# Altium footprint library mechanical_spacers.PcbLib: 19 footprints (part 1 of 2)
Each footprint in its own frame and in the unit in brackets; x right, y up, seen from the top. Pads: shape width x height; smd on the part's side, far side on the other; paste and mask are expansions set on the pad; w line width, h text height; cw(c..) or ccw(c..) is an arc to the next point about the centre after c.
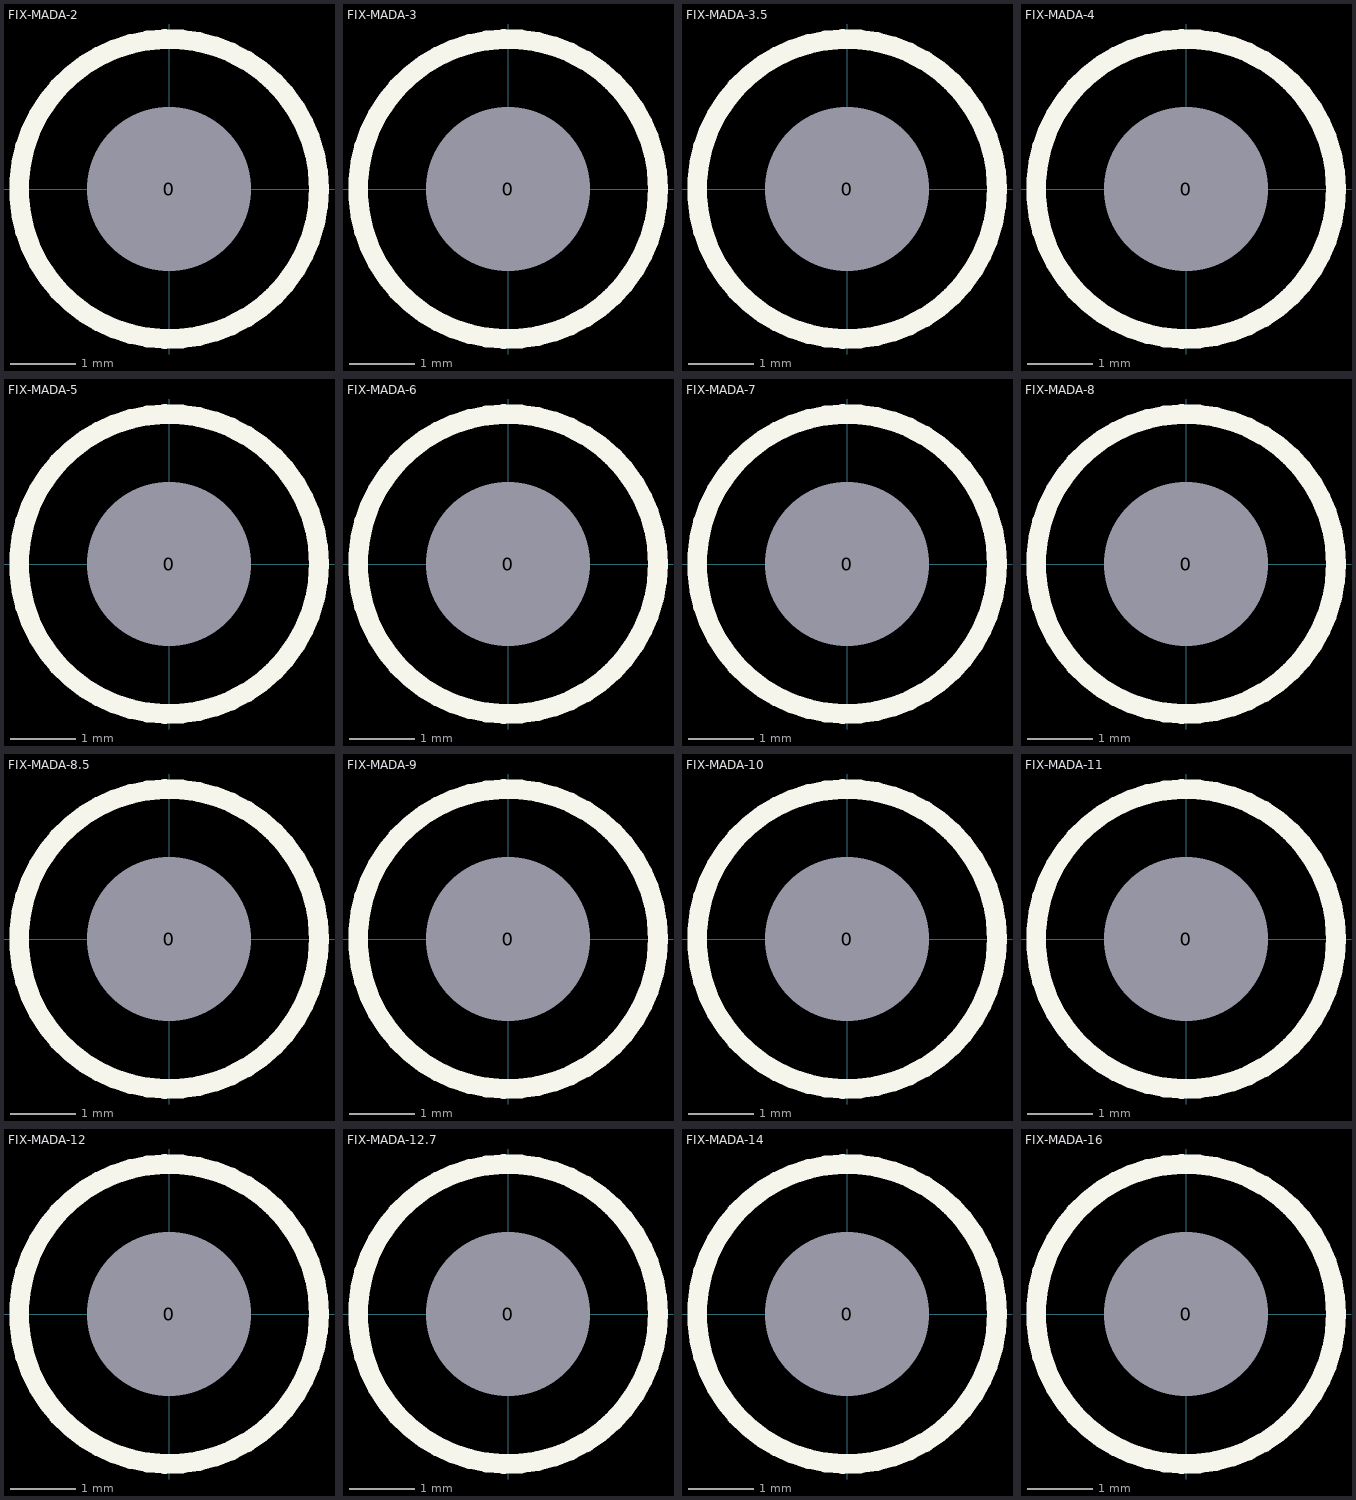
[diagram p0: the footprints below, top view; thin cyan lines are the x and y axes]

## FIX-MADA-2 [mm]
pads (1):
  round 1 hole 2.5: 0(0,0)
Top Overlay:
  circle w0.3: c0,0 r2.286
3D body "User Library-MADA-2.step": height 5.7, standoff -3.7, extent -2.3,-2.3 2.3,2.3

## FIX-MADA-3 [mm]
pads (1):
  round 1 hole 2.5: 0(0,0)
Top Overlay:
  circle w0.3: c0,0 r2.286
3D body "User Library-MADA-3.step": height 6.7, standoff -3.7, extent -2.3,-2.3 2.3,2.3

## FIX-MADA-3.5 [mm]
pads (1):
  round 1 hole 2.5: 0(0,0)
Top Overlay:
  circle w0.3: c0,0 r2.286

## FIX-MADA-4 [mm]
pads (1):
  round 1 hole 2.5: 0(0,0)
Top Overlay:
  circle w0.3: c0,0 r2.286
3D body "User Library-MADA-4.step": height 7.7, standoff -3.7, extent -2.3,-2.3 2.3,2.3

## FIX-MADA-5 [mm]
pads (1):
  round 1 hole 2.5: 0(0,0)
Top Overlay:
  circle w0.3: c0,0 r2.286
3D body "User Library-MADA-5.step": height 8.7, standoff -3.7, extent -2.3,-2.3 2.3,2.3

## FIX-MADA-6 [mm]
pads (1):
  round 1 hole 2.5: 0(0,0)
Top Overlay:
  circle w0.3: c0,0 r2.286
3D body "User Library-MADA-6.step": height 9.7, standoff -3.7, extent -2.3,-2.3 2.3,2.3

## FIX-MADA-7 [mm]
pads (1):
  round 1 hole 2.5: 0(0,0)
Top Overlay:
  circle w0.3: c0,0 r2.286
3D body "User Library-MADA-7.step": height 10.7, standoff -3.7, extent -2.3,-2.3 2.3,2.3

## FIX-MADA-8 [mm]
pads (1):
  round 1 hole 2.5: 0(0,0)
Top Overlay:
  circle w0.3: c0,0 r2.286
3D body "User Library-MADA-8.step": height 11.7, standoff -3.7, extent -2.3,-2.3 2.3,2.3

## FIX-MADA-8.5 [mm]
pads (1):
  round 1 hole 2.5: 0(0,0)
Top Overlay:
  circle w0.3: c0,0 r2.286
3D body "User Library-MADA-8_5.step": height 12.2, standoff -3.7, extent -2.3,-2.3 2.3,2.3

## FIX-MADA-9 [mm]
pads (1):
  round 1 hole 2.5: 0(0,0)
Top Overlay:
  circle w0.3: c0,0 r2.286
3D body "User Library-MADA-9.step": height 12.7, standoff -3.7, extent -2.3,-2.3 2.3,2.3

## FIX-MADA-10 [mm]
pads (1):
  round 1 hole 2.5: 0(0,0)
Top Overlay:
  circle w0.3: c0,0 r2.286
3D body "User Library-MADA-10.step": height 13.7, standoff -3.7, extent -2.3,-2.3 2.3,2.3

## FIX-MADA-11 [mm]
pads (1):
  round 1 hole 2.5: 0(0,0)
Top Overlay:
  circle w0.3: c0,0 r2.286

## FIX-MADA-12 [mm]
pads (1):
  round 1 hole 2.5: 0(0,0)
Top Overlay:
  circle w0.3: c0,0 r2.286
3D body "User Library-MADA-12.step": height 15.7, standoff -3.7, extent -2.3,-2.3 2.3,2.3

## FIX-MADA-12.7 [mm]
pads (1):
  round 1 hole 2.5: 0(0,0)
Top Overlay:
  circle w0.3: c0,0 r2.286

## FIX-MADA-14 [mm]
pads (1):
  round 1 hole 2.5: 0(0,0)
Top Overlay:
  circle w0.3: c0,0 r2.286
3D body "User Library-MADA-14.step": height 17.7, standoff -3.7, extent -2.3,-2.3 2.3,2.3

## FIX-MADA-16 [mm]
pads (1):
  round 1 hole 2.5: 0(0,0)
Top Overlay:
  circle w0.3: c0,0 r2.286
3D body "User Library-MADA-16.step": height 19.7, standoff -3.7, extent -2.3,-2.3 2.3,2.3